# Altium footprint library SMD-8.PcbLib: 1 footprints
Each footprint in its own frame and in the unit in brackets; x right, y up, seen from the top. Pads: shape width x height; smd on the part's side, far side on the other; paste and mask are expansions set on the pad; w line width, h text height; cw(c..) or ccw(c..) is an arc to the next point about the centre after c.
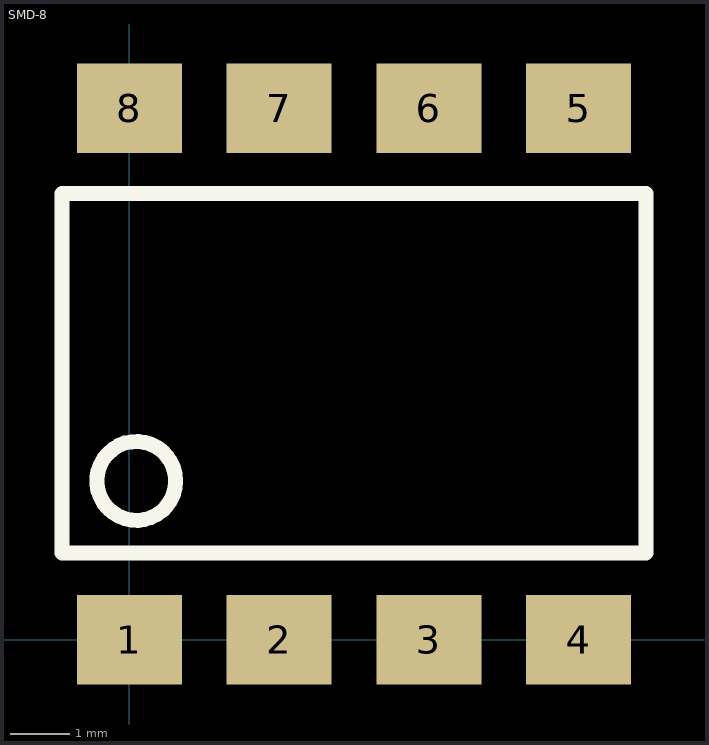
[diagram p0: the footprint, top view; thin cyan lines are the x and y axes]

## SMD-8 [mm] "MID400S"
pads (8):
  rect 1.78x1.52 smd: 1(0,0) 2(2.54,0) 3(5.08,0) 4(7.62,0) 5(7.62,9.01) 6(5.08,9.01) 7(2.54,9.01) 8(0,9.01)
Top Overlay:
  circle w0.254: c0.118,2.692 r0.669
  lines w0.254: -1.143,2.921 -1.143,7.569 8.763,7.569 8.763,1.473 -1.143,1.473 -1.143,2.997